# Altium footprint library Altium_Library_Design.PcbLib: 17 footprints (part 2 of 2)
Each footprint in its own frame and in the unit in brackets; x right, y up, seen from the top. Pads: shape width x height; smd on the part's side, far side on the other; paste and mask are expansions set on the pad; w line width, h text height; cw(c..) or ccw(c..) is an arc to the next point about the centre after c.
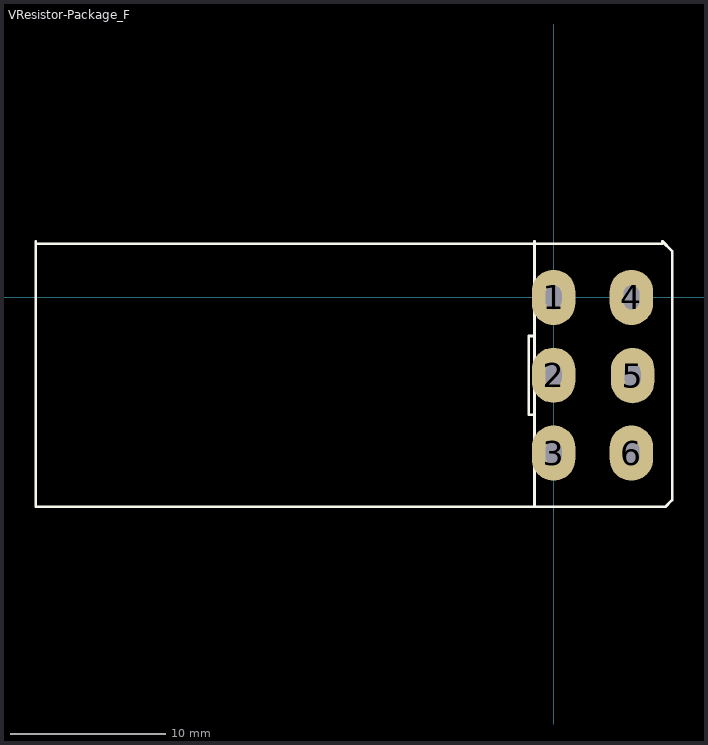
[diagram p1: the footprint, top view; thin cyan lines are the x and y axes]

## VResistor-Package_F [mil]
pads (6):
  oval 110x140 hole 40 slot 60 at 90 deg: 1(0,0) 2(0,-196.85) 3(0,-393.7) 4(196.85,0) 5(200,-197.85) 6(196.85,-393.7)
Top Overlay:
  lines w7: -1310,135.83 -48,135.83 275,135.83 ; -1310,142.15 -1310,-529.53 -48,-529.53 ; -48,-296.85 -63,-296.85 -63,-97.85 -48,-97.85 ; -48,142.15 -48,-529.53 ; 275,142.15 300,117.15 300,-512.85 283.32,-529.53 -48,-529.53
3D body "SW3dPS-ALPHA-potentiometer stereo PCB mount.STEP": height 834.65, standoff -129.92, extent -1309.27,-528.5 299,140.8